# Altium footprint library MLACHK_K.PCBLIB: 40 footprints (part 2 of 3)
Each footprint in its own frame and in the unit in brackets; x right, y up, seen from the top. Pads: shape width x height; smd on the part's side, far side on the other; paste and mask are expansions set on the pad; w line width, h text height; cw(c..) or ccw(c..) is an arc to the next point about the centre after c.
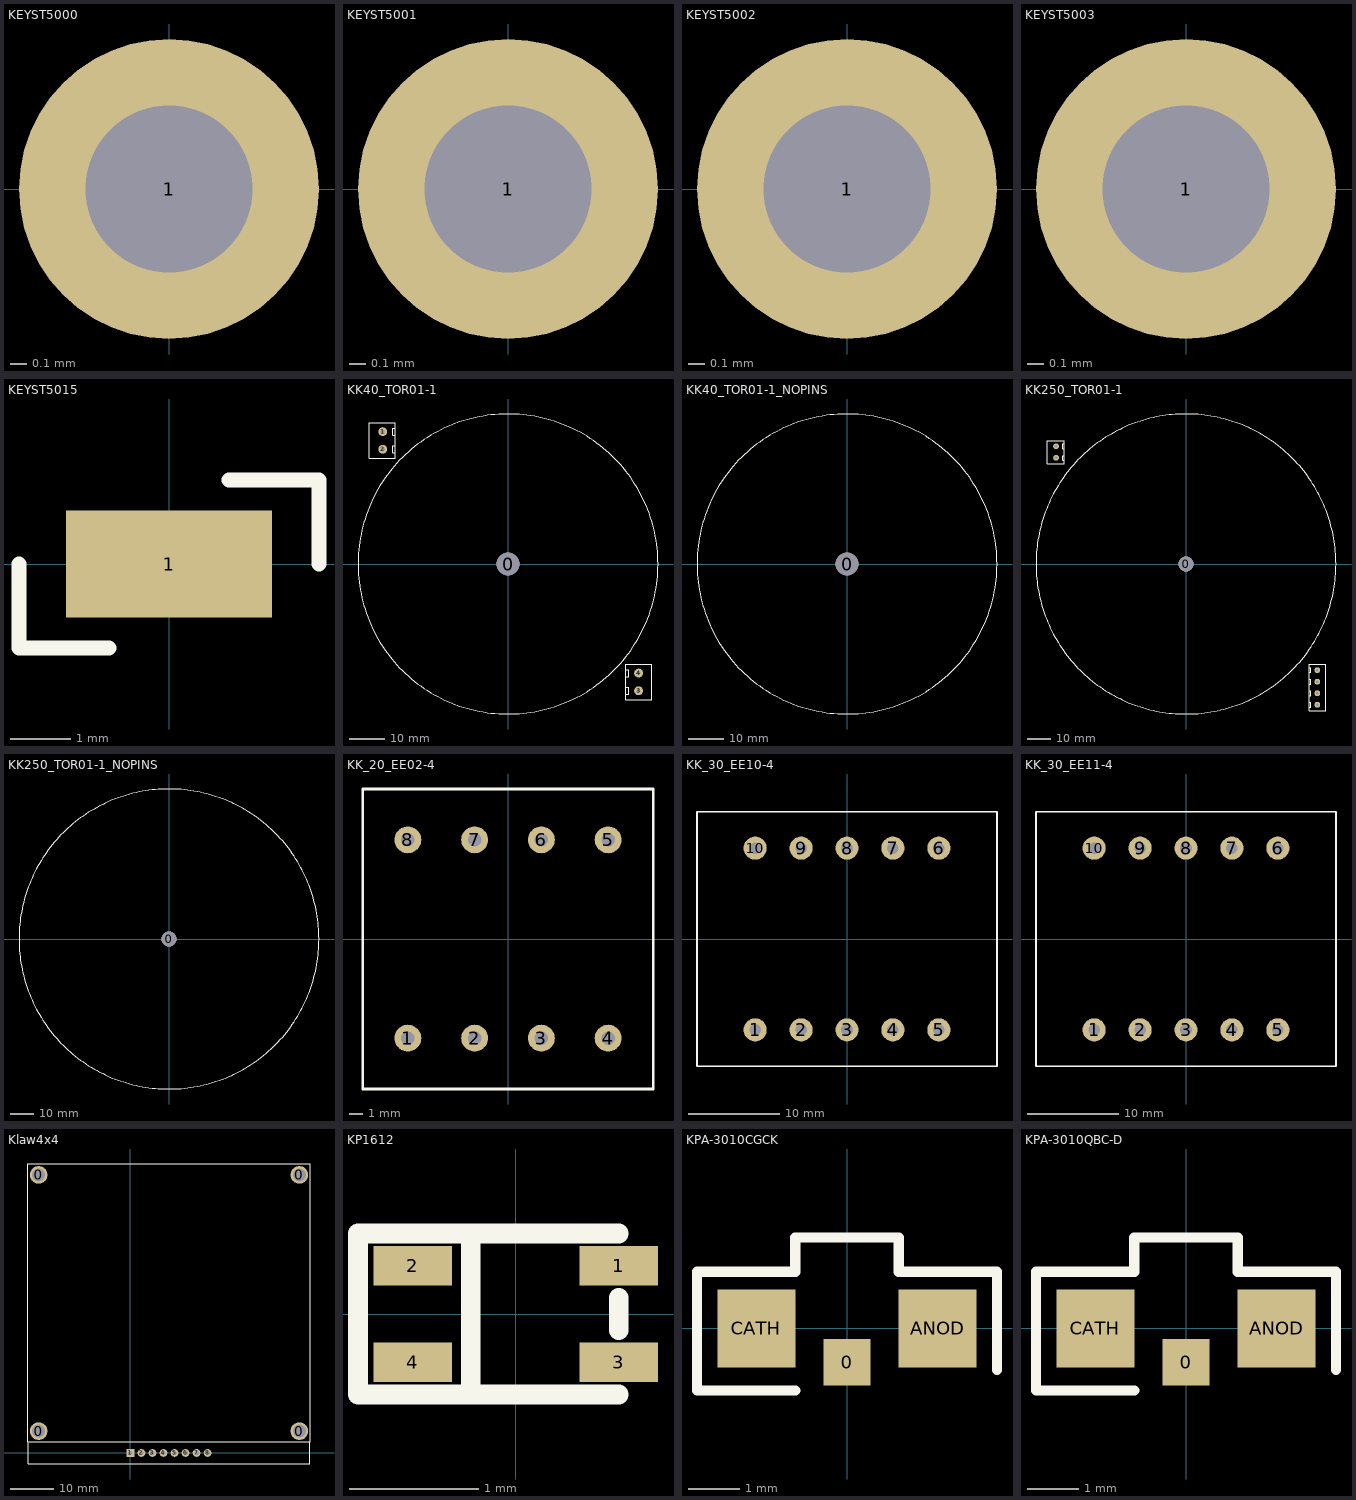
[diagram p1: the footprints below, top view; thin cyan lines are the x and y axes]

## KEYST5000 [mm]
pads (1):
  round 1.8 hole 1: 1(0,0)
3D body: height 3.3, standoff -3.05, extent -0.482,-0.152 -0.178,0.152
3D body: height 3.3, standoff -3.05, extent 0.178,-0.152 0.482,0.152
3D body: height 3.45, standoff 3.15, extent -0.813,-0.152 -0.178,0.152
3D body: height 3.45, standoff 3.15, extent 0.178,-0.152 0.813,0.152
3D body: height 4.32, standoff 3.3, extent -0.812,-0.152 -0.509,0.152
3D body: height 4.47, standoff 4.17, extent -0.813,-0.152 0.813,0.152
3D body: height 4.32, standoff 3.3, extent 0.509,-0.152 0.812,0.152
3D body: height 3.05, standoff 0, extent -1.27,-1.27 1.26,1.265

## KEYST5001 [mm]
pads (1):
  round 1.8 hole 1: 1(0,0)
3D body: height 3.3, standoff -3.05, extent -0.482,-0.152 -0.178,0.152
3D body: height 3.3, standoff -3.05, extent 0.178,-0.152 0.482,0.152
3D body: height 3.45, standoff 3.15, extent -0.813,-0.152 -0.178,0.152
3D body: height 3.45, standoff 3.15, extent 0.178,-0.152 0.813,0.152
3D body: height 4.32, standoff 3.3, extent -0.812,-0.152 -0.509,0.152
3D body: height 4.47, standoff 4.17, extent -0.813,-0.152 0.813,0.152
3D body: height 4.32, standoff 3.3, extent 0.509,-0.152 0.812,0.152
3D body: height 3.05, standoff 0, extent -1.27,-1.27 1.26,1.265

## KEYST5002 [mm]
pads (1):
  round 1.8 hole 1: 1(0,0)
3D body: height 3.3, standoff -3.05, extent -0.482,-0.152 -0.178,0.152
3D body: height 3.3, standoff -3.05, extent 0.178,-0.152 0.482,0.152
3D body: height 3.45, standoff 3.15, extent -0.813,-0.152 -0.178,0.152
3D body: height 3.45, standoff 3.15, extent 0.178,-0.152 0.813,0.152
3D body: height 4.32, standoff 3.3, extent -0.812,-0.152 -0.509,0.152
3D body: height 4.47, standoff 4.17, extent -0.813,-0.152 0.813,0.152
3D body: height 4.32, standoff 3.3, extent 0.509,-0.152 0.812,0.152
3D body: height 3.05, standoff 0, extent -1.27,-1.27 1.26,1.265

## KEYST5003 [mm]
pads (1):
  round 1.8 hole 1: 1(0,0)
3D body: height 3.05, standoff 0, extent -1.27,-1.27 1.26,1.265
3D body: height 4.32, standoff 3.3, extent 0.509,-0.152 0.812,0.152
3D body: height 4.47, standoff 4.17, extent -0.813,-0.152 0.813,0.152
3D body: height 4.32, standoff 3.3, extent -0.812,-0.152 -0.509,0.152
3D body: height 3.45, standoff 3.15, extent 0.178,-0.152 0.813,0.152
3D body: height 3.45, standoff 3.15, extent -0.813,-0.152 -0.178,0.152
3D body: height 3.3, standoff -3.05, extent 0.178,-0.152 0.482,0.152
3D body: height 3.3, standoff -3.05, extent -0.482,-0.152 -0.178,0.152

## KEYST5015 [mil]
pads (1):
  rect 135x70 smd: 1(0,0)
TopOverlay:
  lines w9.84: -98.43,0 -98.43,-55.12 -39.37,-55.12 ; 39.37,55.12 98.43,55.12 98.43,0
3D body: height 10, standoff 0, extent -53,-20 53,20
3D body: height 60, standoff 50, extent -53,-20 53,20
3D body: height 60, standoff 0, extent -53,-20 -43,20
3D body: height 60, standoff 0, extent 43,-20 53,20

## KK40_TOR01-1 [mm]
pads (5):
  round 6.5 hole 6.5: 0(0,0)
  round 2.5 hole 1.2: 1(-35.5,37.5) 2(-35.5,32.5) 3(37,-35.9) 4(37,-30.9)
TopOverlay:
  circle w0.254: c0,0 r42.5
  lines w0.203: -31.9,31.5 -32.706,31.5 -32.706,33.5 -31.9,33.5 ; -31.9,36.5 -32.706,36.5 -32.706,38.5 -31.9,38.5 ; 33.4,-36.9 34.206,-36.9 34.206,-34.9 33.4,-34.9 ; 33.4,-31.9 34.206,-31.9 34.206,-29.9 33.4,-29.9 ; -39.25,30 -31.9,30 -31.9,40 -39.25,40 -39.25,30 ; 33.4,-38.4 40.75,-38.4 40.75,-28.4 33.4,-28.4 33.4,-38.4
3D body: height 17.5, standoff 14.5, extent 35.513,-32.392 38.5,-29.408
3D body: height 17.5, standoff 14.5, extent 35.513,-37.392 38.5,-34.408
3D body: height 16, standoff 0, extent 33.4,-38.4 40.75,-28.4
3D body: height 17.5, standoff 14.5, extent -37,31.008 -34.013,33.992
3D body: height 17.5, standoff 14.5, extent -37,36.008 -34.013,38.992
3D body: height 16, standoff 0, extent -39.25,30 -31.9,40
3D body: height 32, standoff 0, extent -42.5,-42.5 42.5,42.5

## KK40_TOR01-1_NOPINS [mm]
pads (1):
  round 6.5 hole 6.5: 0(0,0)
TopOverlay:
  circle w0.254: c0,0 r42.5
3D body: height 32, standoff 0, extent -42.5,-42.5 42.5,42.5

## KK250_TOR01-1 [mm]
pads (7):
  round 6.5 hole 6.5: 0(0,0)
  round 2.5 hole 1.2: 1(-56.3,51) 2(-56.3,46) 3(56.9,-61) 4(56.9,-56) 5(56.9,-51) 6(56.9,-46)
TopOverlay:
  circle w0.254: c0,0 r65
  lines w0.203: -52.7,45 -53.506,45 -53.506,47 -52.7,47 ; -52.7,50 -53.506,50 -53.506,52 -52.7,52 ; 53.3,-62 54.106,-62 54.106,-60 53.3,-60 ; 53.3,-57 54.106,-57 54.106,-55 53.3,-55 ; 53.3,-52 54.106,-52 54.106,-50 53.3,-50 ; 53.3,-47 54.106,-47 54.106,-45 53.3,-45 ; -60.05,43.5 -52.7,43.5 -52.7,53.5 -60.05,53.5 -60.05,43.5 ; 53.3,-63.5 60.65,-63.5 60.65,-53.5 60.65,-43.5 53.3,-43.5 53.3,-53.5 53.3,-63.5
3D body: height 55, standoff 0, extent -65,-65 65,65
3D body: height 17.5, standoff 14.5, extent 55.413,-57.492 58.4,-54.508
3D body: height 17.5, standoff 14.5, extent 55.413,-62.492 58.4,-59.508
3D body: height 16, standoff 0, extent 53.3,-63.5 60.65,-53.5
3D body: height 16, standoff 0, extent 53.3,-53.5 60.65,-43.5
3D body: height 17.5, standoff 14.5, extent 55.413,-52.492 58.4,-49.508
3D body: height 17.5, standoff 14.5, extent 55.413,-47.492 58.4,-44.508
3D body: height 17.5, standoff 14.5, extent -57.8,44.508 -54.813,47.492
3D body: height 17.5, standoff 14.5, extent -57.8,49.508 -54.813,52.492
3D body: height 16, standoff 0, extent -60.05,43.5 -52.7,53.5

## KK250_TOR01-1_NOPINS [mm]
pads (1):
  round 6.5 hole 6.5: 0(0,0)
TopOverlay:
  circle w0.254: c0,0 r65
3D body: height 55, standoff 0, extent -65,-65 65,65

## KK_20_EE02-4 [mil]
pads (8):
  round 80 hole 40: 1(-298.23,-295.28) 2(-99.41,-295.28) 3(99.41,-295.28) 4(298.23,-295.28) 5(298.23,295.28) 6(99.41,295.28) 7(-99.41,295.28) 8(-298.23,295.28)
TopOverlay:
  lines w8: -433.07,-446.85 433.07,-446.85 433.07,446.85 -433.07,446.85 -433.07,-446.85

## KK_30_EE10-4 [mm]
pads (10):
  round 2.54 hole 1.27: 1(-10.1,-10) 2(-5.05,-10) 3(0,-10) 4(5.05,-10) 5(10.1,-10) 6(10.1,10) 7(5.05,10) 8(0,10) 9(-5.05,10) 10(-10.1,10)
TopOverlay:
  lines w0.203: -16.5,-14 16.5,-14 16.5,14 -16.5,14 -16.5,-14
3D body: height 34, standoff 0, extent -11,-9.5 11,9.5
3D body: height 30, standoff 0, extent -16.5,-14 16.5,14

## KK_30_EE11-4 [mm]
pads (10):
  round 2.54 hole 1.27: 1(-10.1,-10) 2(-5.05,-10) 3(0,-10) 4(5.05,-10) 5(10.1,-10) 6(10.1,10) 7(5.05,10) 8(0,10) 9(-5.05,10) 10(-10.1,10)
TopOverlay:
  lines w0.203: -16.5,-14 -16.5,14 16.5,14 16.5,-14 -16.5,-14
3D body: height 34, standoff 0, extent -11,-9.5 11,9.5
3D body: height 30, standoff 0, extent -16.5,-14 16.5,14

## Klaw4x4 [mil]
pads (12):
  round 160 hole 118: 0(-831.1,198.43) 0(-831.1,2521.26) 0(1531.1,198.43) 0(1531.1,2521.26)
  rect 70x70 hole 40: 1(0,0)
  round 70 hole 40: 2(100,0) 3(200,0) 4(300,0) 5(400,0) 6(500,0) 7(600,0) 8(700,0)
TopOverlay:
  lines w10: -925,100 -925,-100 1625,-100 1625,100 ; -929.53,100 -929.53,2619.68 1629.53,2619.68 1629.53,100 -929.53,100

## KP1612 [mm]
pads (4):
  rect 0.61x0.305 smd: 1(0.8,0.375) 2(-0.8,0.375) 3(0.8,-0.375) 4(-0.8,-0.375)
TopOverlay:
  lines w0.152: -0.35,-0.625 -0.35,0.625 ; 0.8,-0.625 -1.225,-0.625 -1.225,0.625 0.8,0.625 ; 0.8,-0.125 0.8,0.125

## KPA-3010CGCK [mm]
pads (3):
  rect 0.9x0.9 smd: 0(0,-0.65)
  rect 1.5x1.5 smd: ANOD(1.75,0) CATH(-1.75,0)
TopOverlay:
  lines w0.2: -1,-1.2 -2.9,-1.2 -2.9,1.1 -1,1.1 -1,1.76 1,1.76 1,1.1 2.9,1.1 2.9,-0.8
3D body: height 1, standoff 0, extent -1.5,-0.24 1.5,0.76
3D body: height 1, standoff 0, extent -1,0.76 1,1.76

## KPA-3010QBC-D [mm]
pads (3):
  rect 0.9x0.9 smd: 0(0,-0.65)
  rect 1.5x1.5 smd: ANOD(1.75,0) CATH(-1.75,0)
TopOverlay:
  lines w0.2: -1,-1.2 -2.9,-1.2 -2.9,1.1 -1,1.1 -1,1.76 1,1.76 1,1.1 2.9,1.1 2.9,-0.8
3D body: height 1, standoff 0, extent -1.5,-0.24 1.5,0.76
3D body: height 1, standoff 0, extent -1,0.76 1,1.76